# Altium schematic symbol library LTC2473.Schlib: 1 symbol
Pins are listed as number, name and electrical type; pins without a type are passive.

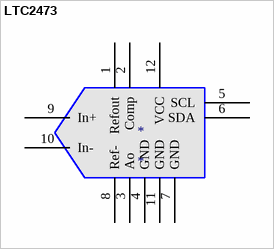
[diagram p0: symbol LTC2473]

## LTC2473
designator *
pins: 1 Refout, 2 Comp, 3 Ao, 4 GND, 5 SCL, 6 SDA, 7 GND, 8 Ref-, 9 In+, 10 In-, 11 GND, 12 VCC